# EAGLE library part STM32F303_334KXT (library STM32F3xx)
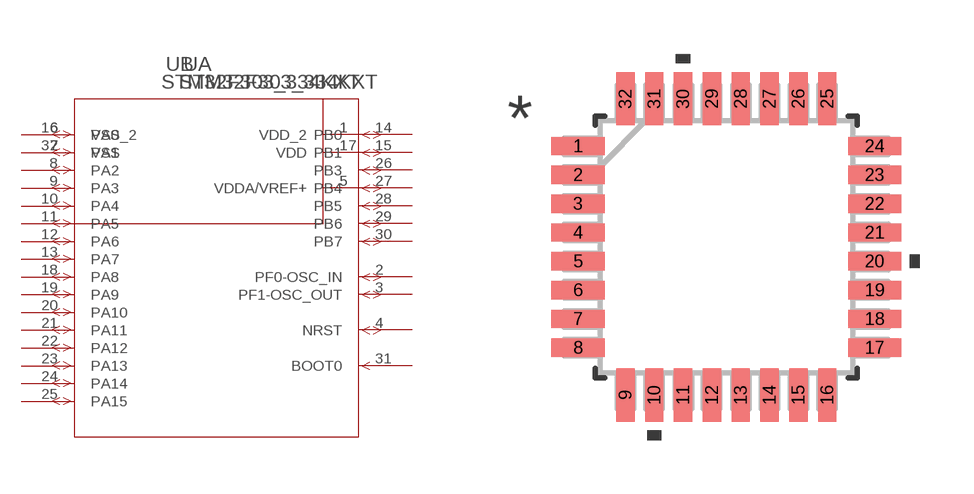
[diagram p13: symbol with the pads of LQFP-32; footprint LQFP-32]

Designator prefix U; gates A=STM32F303_334KXT_1 B=STM32F303_334KXT

## STM32F303_334KXT (COPYRIGHT: Copyright C 2016 Accelerated Designs. All rights reserved; MANUFACTURER_PART_NUMBER: stm32f303_334kxt; VENDOR: STMicroelectronics)  [LQFP-32]
1  B:VDD_2  pwr
2  A:PF0-OSC_IN
3  A:PF1-OSC_OUT
4  A:NRST
5  B:VDDA/VREF+  pwr
6  A:PA0
7  A:PA1
8  A:PA2
9  A:PA3
10  A:PA4
11  A:PA5
12  A:PA6
13  A:PA7
14  A:PB0
15  A:PB1
16  B:VSS_2  pwr
17  B:VDD  pwr
18  A:PA8
19  A:PA9
20  A:PA10
21  A:PA11
22  A:PA12
23  A:PA13
24  A:PA14
25  A:PA15
26  A:PB3
27  A:PB4
28  A:PB5
29  A:PB6
30  A:PB7
31  A:BOOT0  in
32  B:VSS  pwr

## Footprint LQFP-32 (pad centres in mm)
smd 1.473 x 0.508: 1 -4.115,2.8; 2 -4.115,2; 3 -4.115,1.2; 4 -4.115,0.4; 5 -4.115,-0.4; 6 -4.115,-1.2; 7 -4.115,-2; 8 -4.115,-2.8; 17 4.115,-2.8; 18 4.115,-2; 19 4.115,-1.2; 20 4.115,-0.4; 21 4.115,0.4; 22 4.115,1.2; 23 4.115,2; 24 4.115,2.8
smd 0.508 x 1.473: 9 -2.8,-4.115; 10 -2,-4.115; 11 -1.2,-4.115; 12 -0.4,-4.115; 13 0.4,-4.115; 14 1.2,-4.115; 15 2,-4.115; 16 2.8,-4.115; 25 2.8,4.115; 26 2,4.115; 27 1.2,4.115; 28 0.4,4.115; 29 -0.4,4.115; 30 -1.2,4.115; 31 -2,4.115; 32 -2.8,4.115